# Altium footprint library 3G30A_2C.PcbLib: 1 footprints
Each footprint in its own frame and in the unit in brackets; x right, y up, seen from the top. Pads: shape width x height; smd on the part's side, far side on the other; paste and mask are expansions set on the pad; w line width, h text height; cw(c..) or ccw(c..) is an arc to the next point about the centre after c.
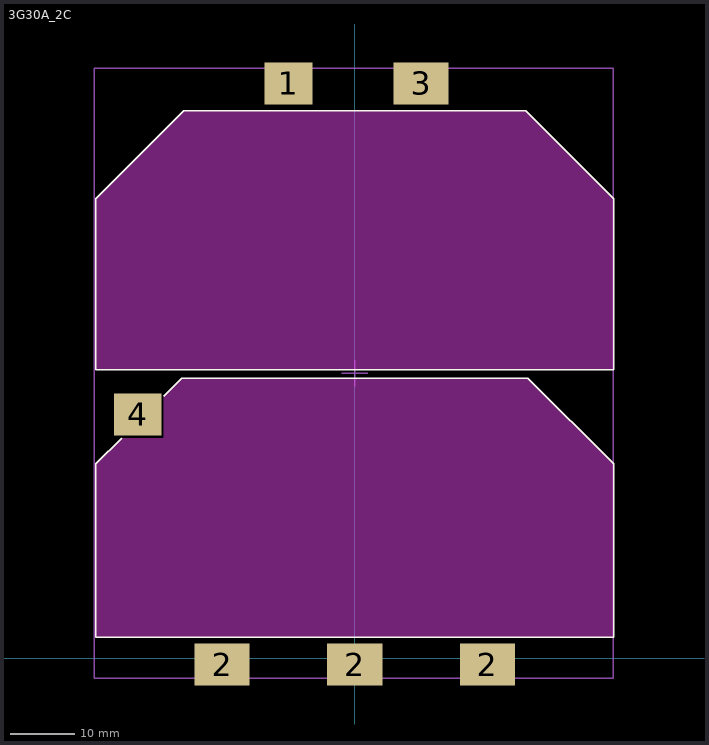
[diagram p0: the footprint, top view; thin cyan lines are the x and y axes]

## 3G30A_2C [mm]
pads (6):
  rect 7.35x6.5 smd: 1(-10.25,88.8) 4(-33.52,37.65)
  rect 8.53x6.5 smd: 2(-20.5,-1) 2(0,-1) 2(20.5,-1) 3(10.25,88.8)
Top Layer keep-out:
  region: -26.45,84.55 -40,71 -40,44.55 40,44.55 40,71 26.45,84.55
  region: -40,30 -40,3.25 40,3.25 40,30 26.75,43.25 -26.75,43.25 -29.5,40.5 -29.5,34 -36,34
Top Overlay:
  lines w0.2: -36,34 -40,30 -40,3.25 40,3.25 40,30 26.75,43.25 -26.75,43.25 -29.5,40.5 ; -40,44.55 -40,71 -26.45,84.55 26.45,84.55 40,71 40,44.55 -40,44.55
Mechanical 13:
  lines w0.2: -40.25,-3.15 39.9,-3.15 39.9,91.15 -40.25,91.15 -40.25,-3.15
Mechanical 15:
  lines w0.2: -2,44 2,44 ; 0,42 0,46
3D body "3G30A_2C.STEP": height 0.52, standoff 0.14, extent -40.25,-3.15 39.9,91.15